# Altium footprint library MB1419.PcbLib: 49 footprints (part 4 of 4)
Each footprint in its own frame and in the unit in brackets; x right, y up, seen from the top. Pads: shape width x height; smd on the part's side, far side on the other; paste and mask are expansions set on the pad; w line width, h text height; cw(c..) or ccw(c..) is an arc to the next point about the centre after c.
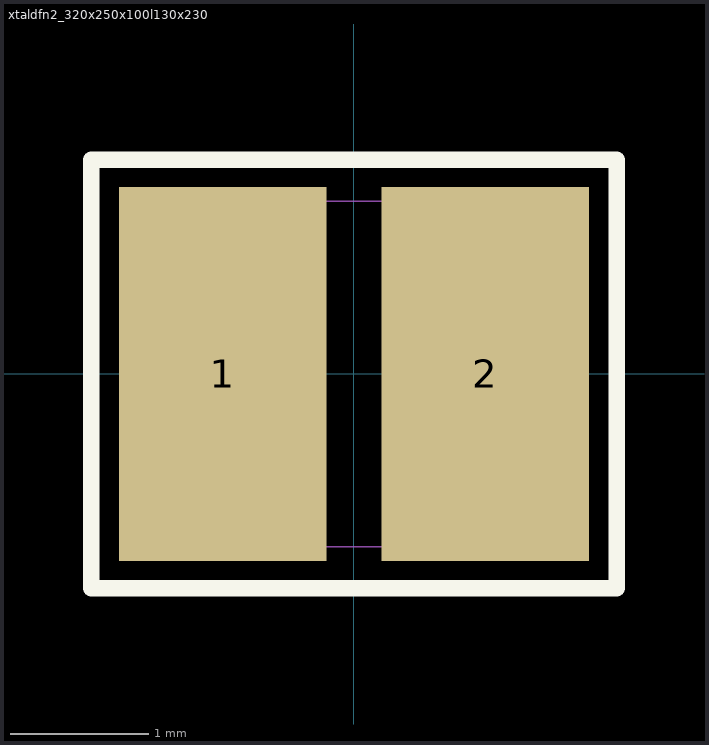
[diagram p3: the footprint, top view; thin cyan lines are the x and y axes]

## xtaldfn2_320x250x100l130x230 [mm]
pads (2):
  rect 1.5x2.7 smd mask+0.05: 1(-0.95,0) 2(0.95,0)
Top Overlay:
  lines w0.12: -1.9,-1.55 1.9,-1.55 1.9,1.55 -1.9,1.55 -1.9,-1.55
Mechanical 14:
  lines w0.01: -1.6,-1.25 1.6,-1.25 1.6,1.25 -1.6,1.25 -1.6,-1.25
  text "'.Designator'" at 2.025,-0.225 h0.75
  text "1" at -1.55,-0.325 h1
  text "2" at 1.125,-0.325 h1
3D body "XTALDFN320X250X100-2.STEP": height 1.01, standoff 0.01, extent -1.61,-1.25 1.59,1.25